# Altium footprint library SC_TO220.PcbLib: 2 footprints
Each footprint in its own frame and in the unit in brackets; x right, y up, seen from the top. Pads: shape width x height; smd on the part's side, far side on the other; paste and mask are expansions set on the pad; w line width, h text height; cw(c..) or ccw(c..) is an arc to the next point about the centre after c.
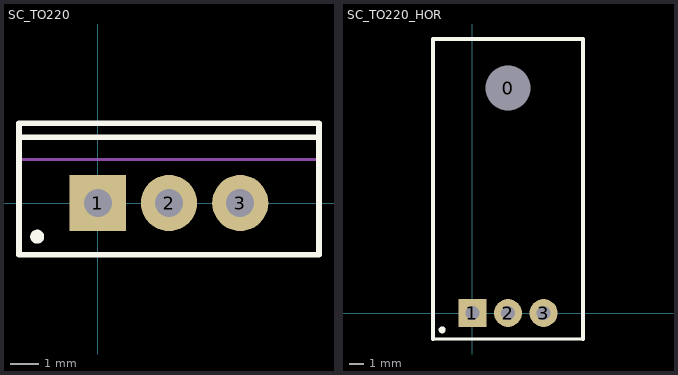
[diagram p0: the footprints below, top view; thin cyan lines are the x and y axes]

## SC_TO220 [mm] "TO, Thru-Hole, Vertical, Heatsink Mounted; 3 In-Line Leads; Pitch 2.54 mm"
height 19.4
pads (3):
  rect 2x2 hole 1: 1(0,0)
  round 2 hole 1: 2(2.54,0) 3(5.08,0)
Top Overlay:
  circle w0.25: c-2.16,-1.2 r0.125
  lines w0.2: -2.81,2.35 7.89,2.35 ; -2.81,-1.85 -2.81,2.85 7.89,2.85 7.89,-1.85 -2.81,-1.85
Mechanical 1:
  lines w0.1: -2.81,1.55 7.89,1.55 ; -2.81,-1.85 7.89,-1.85 7.89,2.85 -2.81,2.85 -2.81,-1.85
Mechanical 15:
  lines w0.1: 2.04,0 3.04,0 ; 2.54,-0.5 2.54,0.5
3D body: height 12.9, standoff 4, extent -2.86,-1.9 7.94,2.9
3D body: height 19.4, standoff 12.9, extent -2.809,1.551 7.889,2.849

## SC_TO220_HOR [mm] "TO, Thru-Hole, 3 In-Line Leads; Pitch 2.54 mm"
height 19.4
pads (4):
  round 3 hole 3.2 unplated: 0(2.54,16.053)
  rect 2x2 hole 1: 1(0,0)
  round 2 hole 1: 2(2.54,0) 3(5.08,0)
Top Overlay:
  circle w0.25: c-2.16,-1.2 r0.125
  lines w0.2: -2.81,-1.85 7.89,-1.85
  lines w0.254: -2.81,-1.85 -2.81,19.558 7.89,19.558 7.89,-1.85
Mechanical 1:
  lines w0.1: -2.81,-1.85 7.89,-1.85
3D body: height 6.2, standoff -1, extent -2.54,-0.25 7.62,19.24